# Altium integrated library Maxim Sensors.IntLib: 1171 symbols (part 34 of 61)
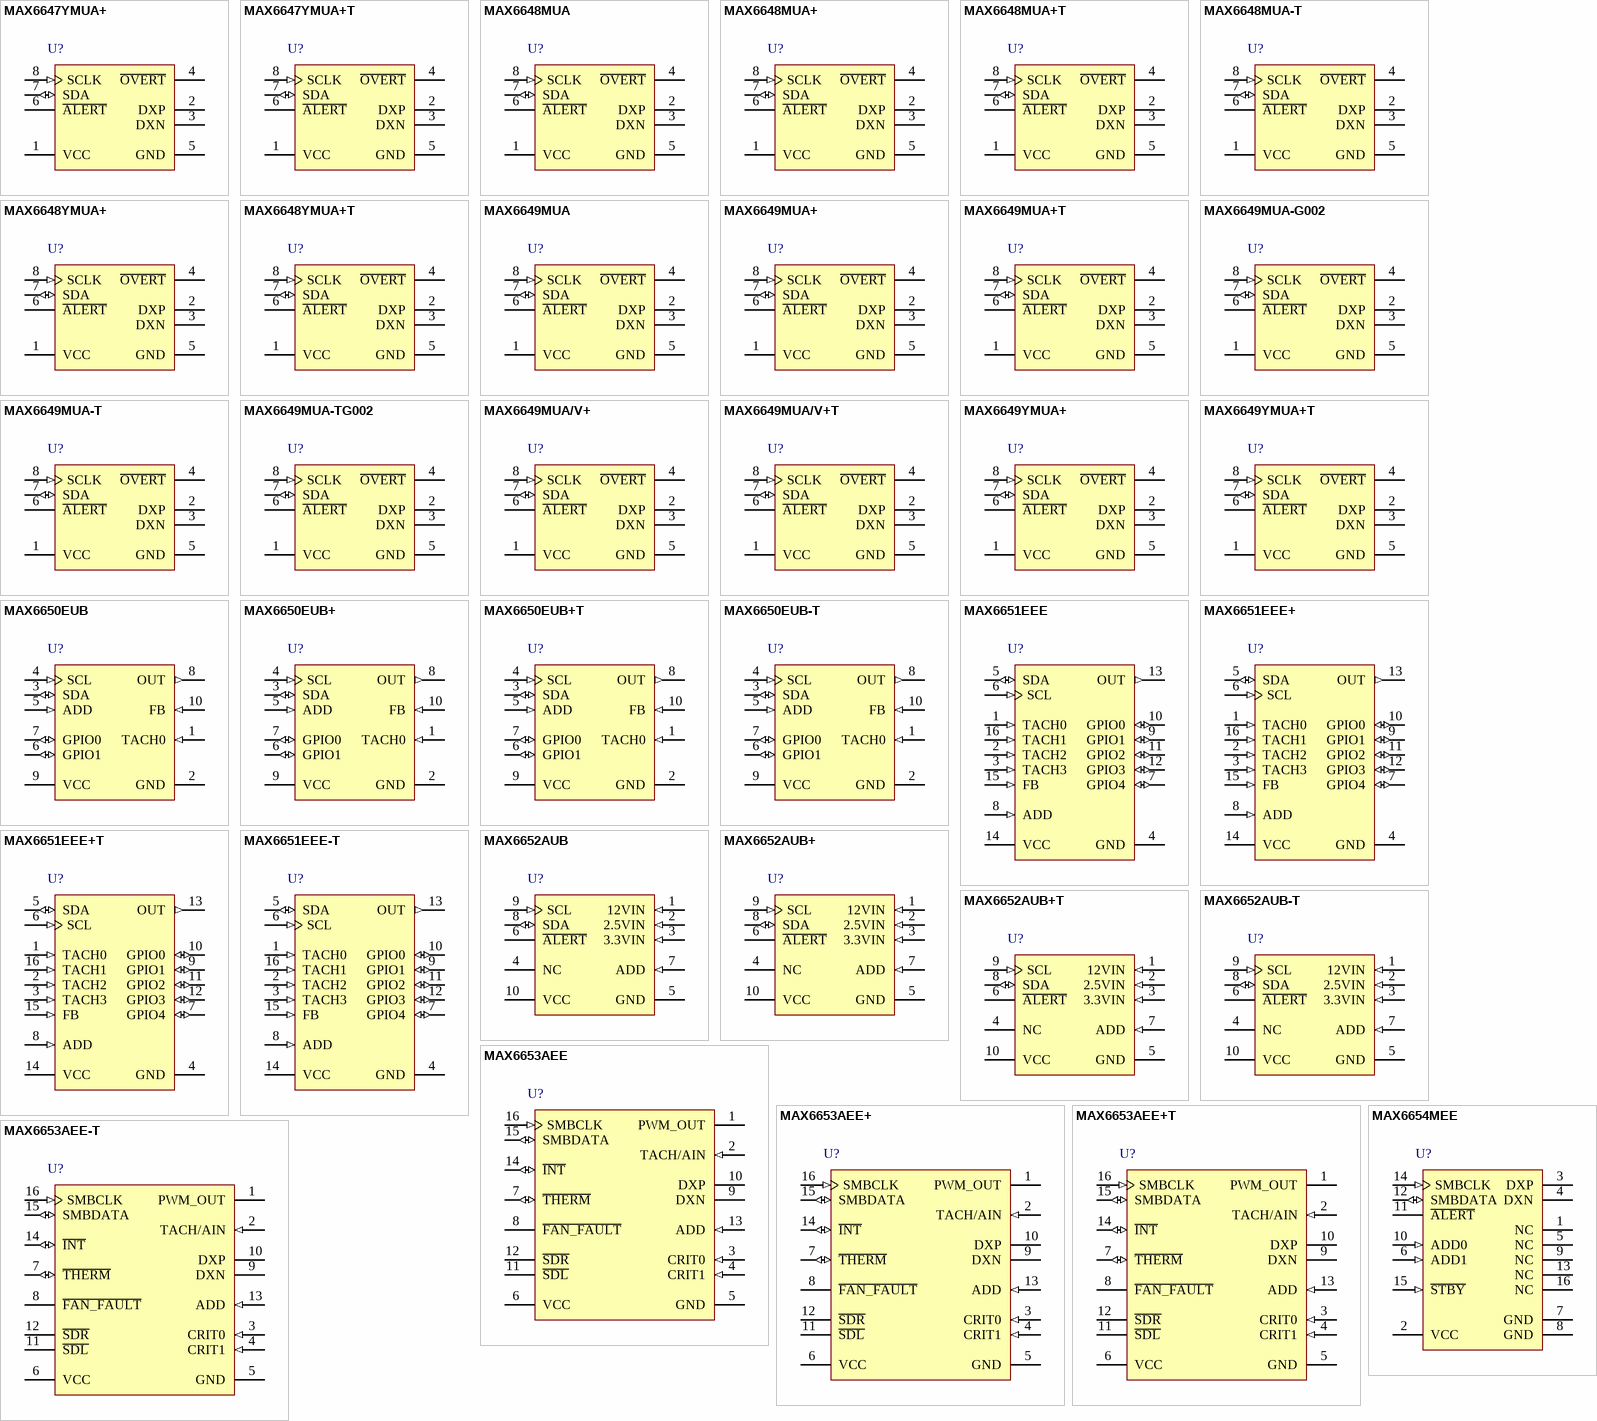
[diagram p66: symbols MAX6647YMUA+ to MAX6654MEE]

## MAX6649MUA-TG002
designator U?
145 degC, SMBus-Compatible Remote / Local Temperature Sensor with Overtemperature Alarms, 11 Bits Temperature Resolution, -55 to 125 degC, 8-Pin SOP (U8-1); Generic Part Number: MAX6649; PartNumber: MAX6649MUA-TG002; Alarm Output: Alert, Overt; Functions: Dual Temperature Alarms, Remote & Local Sensor; Interface: 2-Wire/I2C/SMBus; Parasite Pwr.: No; DatasheetVersion: Rev. 4; PackageVersion: Rev. L, 08/2009; PackageReference: U8-1; PackageDescription: 8-Pin Micro-MAX, Thin Shrink Small-Outline (U8-1), Body 3 x 3 mm, Pitch 0.65mm; Supplier 1: Mouser; Supplier Part Number 1: N/A; Mounting Technology: Surface Mount; Code_JEDEC: MO-187; ComponentLink1Description: Manufacturer URL; ComponentLink1URL: http://www.maximintegrated.com/; ComponentLink2Description: Datasheet; ComponentLink2URL: http://datasheets.maximintegrated.com/en/ds/MAX6646-MAX6649.pdf; ComponentLink3Description: Package Specification; ComponentLink3URL: http://pdfserv.maximintegrated.com/package_dwgs/21-0036.PDF
footprint MAXM-U8-1_N (SOP, 8-Leads, Body 3x3mm, Pitch 0.65mm, IPC Medium Density)
footprint MAXM-U8-1_L (SOP, 8-Leads, Body 3x3mm, Pitch 0.65mm, IPC High Density)
footprint MAXM-U8-1_M (SOP, 8-Leads, Body 3x3mm, Pitch 0.65mm, IPC Low Density)
pins: 1 VCC (power) "Supply Voltage Input, 3V to 5.5V. Bypass VCC to GND with a 0.1uF capacitor. A 200ohm series resistor is recommended but not required for additional noise filtering", 2 DXP "Combined Remote-Diode Current Source and A/D Positive Input for Remote-Diode Channel. DO NOT LEAVE DXP UNCONNECTED; connect DXP to DXN if no remote diode is used. Place a 2200pF capacitor between DXP and DXN for noise (See Datasheet)", 3 DXN "Combined Remote-Diode Current Sink and A/D Negative Input. DXN is internally connected to ground.", 4 ~{OVERT} (oc) "Overtemperature Alert/Interrupt Output, Open Drain. O\V\E\R\T\ is logic low when the temperature is above the software-programmed threshold", 5 GND (power) "Ground", 6 ~{ALERT} (oc) "SMBus Alert (Interrupt) Output, Open Drain. A\L\E\R\T\ asserts when temperature exceeds limits (high or low temperature). A\L\E\R\T\ stays asserted until acknowledged by either reading the status register or by successfully (See Datasheet)", 7 SDA (io) "SMBus Serial-Data Input/Output, Open Drain", 8 SCLK (in) "SMBus Serial-Clock Input"

## MAX6649MUA/V+
designator U?
145 degC, SMBus-Compatible Remote / Local Temperature Sensor with Overtemperature Alarms, 11 Bits Temperature Resolution, -55 to 125 degC, 8-Pin SOP (U8+1), Pb-Free; Generic Part Number: MAX6649; PartNumber: MAX6649MUA/V+; Alarm Output: Alert, Overt; Functions: Dual Temperature Alarms, Remote & Local Sensor; Interface: 2-Wire/I2C/SMBus; Parasite Pwr.: No; DatasheetVersion: Rev. 4; PackageVersion: Rev. L, 08/2009; PackageReference: U8+1; PackageDescription: 8-Pin Micro-MAX, Thin Shrink Small-Outline (U8+1), Body 3 x 3 mm, Pitch 0.65 mm; Supplier 1: Digi-Key; Supplier Part Number 1: MAX6649MUA/V+-ND; Supplier 2: Mouser; Supplier Part Number 2: 700-MAX6649MUA/V+; Mounting Technology: Surface Mount; Code_JEDEC: MO-187; ComponentLink1Description: Manufacturer URL; ComponentLink1URL: http://www.maximintegrated.com/; ComponentLink2Description: Datasheet; ComponentLink2URL: http://datasheets.maximintegrated.com/en/ds/MAX6646-MAX6649.pdf; ComponentLink3Description: Package Specification; ComponentLink3URL: http://pdfserv.maximintegrated.com/package_dwgs/21-0036.PDF
footprint MAXM-U8+1_N (SOP, 8-Leads, Body 3x3mm, Pitch 0.65mm, IPC Medium Density)
footprint MAXM-U8+1_L (SOP, 8-Leads, Body 3x3mm, Pitch 0.65mm, IPC High Density)
footprint MAXM-U8+1_M (SOP, 8-Leads, Body 3x3mm, Pitch 0.65mm, IPC Low Density)
pins: 1 VCC (power) "Supply Voltage Input, 3V to 5.5V. Bypass VCC to GND with a 0.1uF capacitor. A 200ohm series resistor is recommended but not required for additional noise filtering", 2 DXP "Combined Remote-Diode Current Source and A/D Positive Input for Remote-Diode Channel. DO NOT LEAVE DXP UNCONNECTED; connect DXP to DXN if no remote diode is used. Place a 2200pF capacitor between DXP and DXN for noise (See Datasheet)", 3 DXN "Combined Remote-Diode Current Sink and A/D Negative Input. DXN is internally connected to ground.", 4 ~{OVERT} (oc) "Overtemperature Alert/Interrupt Output, Open Drain. O\V\E\R\T\ is logic low when the temperature is above the software-programmed threshold", 5 GND (power) "Ground", 6 ~{ALERT} (oc) "SMBus Alert (Interrupt) Output, Open Drain. A\L\E\R\T\ asserts when temperature exceeds limits (high or low temperature). A\L\E\R\T\ stays asserted until acknowledged by either reading the status register or by successfully (See Datasheet)", 7 SDA (io) "SMBus Serial-Data Input/Output, Open Drain", 8 SCLK (in) "SMBus Serial-Clock Input"

## MAX6649MUA/V+T
designator U?
145 degC, SMBus-Compatible Remote / Local Temperature Sensor with Overtemperature Alarms, 11 Bits Temperature Resolution, -55 to 125 degC, 8-Pin SOP (U8+1), Pb-Free, Tape and Reel; Generic Part Number: MAX6649; PartNumber: MAX6649MUA/V+T; Alarm Output: Alert, Overt; Functions: Dual Temperature Alarms, Remote & Local Sensor; Interface: 2-Wire/I2C/SMBus; Parasite Pwr.: No; DatasheetVersion: Rev. 4; PackageVersion: Rev. L, 08/2009; PackageReference: U8+1; PackageDescription: 8-Pin Micro-MAX, Thin Shrink Small-Outline (U8+1), Body 3 x 3 mm, Pitch 0.65 mm; Supplier 1: Digi-Key; Supplier Part Number 1: MAX6649MUA/V+T-ND; Supplier 2: Mouser; Supplier Part Number 2: 700-MAX6649MUA/V+T; Packing: Tape and Reel; Mounting Technology: Surface Mount; Code_JEDEC: MO-187; ComponentLink1Description: Manufacturer URL; ComponentLink1URL: http://www.maximintegrated.com/; ComponentLink2Description: Datasheet; ComponentLink2URL: http://datasheets.maximintegrated.com/en/ds/MAX6646-MAX6649.pdf; ComponentLink3Description: Package Specification; ComponentLink3URL: http://pdfserv.maximintegrated.com/package_dwgs/21-0036.PDF
footprint MAXM-U8+1_N (SOP, 8-Leads, Body 3x3mm, Pitch 0.65mm, IPC Medium Density)
footprint MAXM-U8+1_L (SOP, 8-Leads, Body 3x3mm, Pitch 0.65mm, IPC High Density)
footprint MAXM-U8+1_M (SOP, 8-Leads, Body 3x3mm, Pitch 0.65mm, IPC Low Density)
pins: 1 VCC (power) "Supply Voltage Input, 3V to 5.5V. Bypass VCC to GND with a 0.1uF capacitor. A 200ohm series resistor is recommended but not required for additional noise filtering", 2 DXP "Combined Remote-Diode Current Source and A/D Positive Input for Remote-Diode Channel. DO NOT LEAVE DXP UNCONNECTED; connect DXP to DXN if no remote diode is used. Place a 2200pF capacitor between DXP and DXN for noise (See Datasheet)", 3 DXN "Combined Remote-Diode Current Sink and A/D Negative Input. DXN is internally connected to ground.", 4 ~{OVERT} (oc) "Overtemperature Alert/Interrupt Output, Open Drain. O\V\E\R\T\ is logic low when the temperature is above the software-programmed threshold", 5 GND (power) "Ground", 6 ~{ALERT} (oc) "SMBus Alert (Interrupt) Output, Open Drain. A\L\E\R\T\ asserts when temperature exceeds limits (high or low temperature). A\L\E\R\T\ stays asserted until acknowledged by either reading the status register or by successfully (See Datasheet)", 7 SDA (io) "SMBus Serial-Data Input/Output, Open Drain", 8 SCLK (in) "SMBus Serial-Clock Input"

## MAX6649YMUA+
designator U?
145 degC, SMBus-Compatible Remote / Local Temperature Sensor with Overtemperature Alarms, 11 Bits Temperature Resolution, -55 to 125 degC, 8-Pin SOP (U8+1), Pb-Free; Generic Part Number: MAX6649; PartNumber: MAX6649YMUA+; Alarm Output: Alert, Overt; Functions: Dual Temperature Alarms, Remote & Local Sensor; Interface: 2-Wire/I2C/SMBus; Parasite Pwr.: No; DatasheetVersion: Rev. 4; PackageVersion: Rev. L, 08/2009; PackageReference: U8+1; PackageDescription: 8-Pin Micro-MAX, Thin Shrink Small-Outline (U8+1), Body 3 x 3 mm, Pitch 0.65 mm; Supplier 1: Digi-Key; Supplier Part Number 1: MAX6649YMUA+-ND; Supplier 2: Mouser; Supplier Part Number 2: 700-MAX6649YMUA; Mounting Technology: Surface Mount; Code_JEDEC: MO-187; ComponentLink1Description: Manufacturer URL; ComponentLink1URL: http://www.maximintegrated.com/; ComponentLink2Description: Datasheet; ComponentLink2URL: http://datasheets.maximintegrated.com/en/ds/MAX6646-MAX6649.pdf; ComponentLink3Description: Package Specification; ComponentLink3URL: http://pdfserv.maximintegrated.com/package_dwgs/21-0036.PDF
footprint MAXM-U8+1_N (SOP, 8-Leads, Body 3x3mm, Pitch 0.65mm, IPC Medium Density)
footprint MAXM-U8+1_L (SOP, 8-Leads, Body 3x3mm, Pitch 0.65mm, IPC High Density)
footprint MAXM-U8+1_M (SOP, 8-Leads, Body 3x3mm, Pitch 0.65mm, IPC Low Density)
pins: 1 VCC (power) "Supply Voltage Input, 3V to 5.5V. Bypass VCC to GND with a 0.1uF capacitor. A 200ohm series resistor is recommended but not required for additional noise filtering", 2 DXP "Combined Remote-Diode Current Source and A/D Positive Input for Remote-Diode Channel. DO NOT LEAVE DXP UNCONNECTED; connect DXP to DXN if no remote diode is used. Place a 2200pF capacitor between DXP and DXN for noise (See Datasheet)", 3 DXN "Combined Remote-Diode Current Sink and A/D Negative Input. DXN is internally connected to ground.", 4 ~{OVERT} (oc) "Overtemperature Alert/Interrupt Output, Open Drain. O\V\E\R\T\ is logic low when the temperature is above the software-programmed threshold", 5 GND (power) "Ground", 6 ~{ALERT} (oc) "SMBus Alert (Interrupt) Output, Open Drain. A\L\E\R\T\ asserts when temperature exceeds limits (high or low temperature). A\L\E\R\T\ stays asserted until acknowledged by either reading the status register or by successfully (See Datasheet)", 7 SDA (io) "SMBus Serial-Data Input/Output, Open Drain", 8 SCLK (in) "SMBus Serial-Clock Input"

## MAX6649YMUA+T
designator U?
145 degC, SMBus-Compatible Remote / Local Temperature Sensor with Overtemperature Alarms, 11 Bits Temperature Resolution, -55 to 125 degC, 8-Pin SOP (U8+1), Pb-Free, Tape and Reel; Generic Part Number: MAX6649; PartNumber: MAX6649YMUA+T; Alarm Output: Alert, Overt; Functions: Dual Temperature Alarms, Remote & Local Sensor; Interface: 2-Wire/I2C/SMBus; Parasite Pwr.: No; DatasheetVersion: Rev. 4; PackageVersion: Rev. L, 08/2009; PackageReference: U8+1; PackageDescription: 8-Pin Micro-MAX, Thin Shrink Small-Outline (U8+1), Body 3 x 3 mm, Pitch 0.65 mm; Supplier 1: Digi-Key; Supplier Part Number 1: MAX6649YMUA+T-ND; Supplier 2: Mouser; Supplier Part Number 2: 700-MAX6649YMUAT; Packing: Tape and Reel; Mounting Technology: Surface Mount; Code_JEDEC: MO-187; ComponentLink1Description: Manufacturer URL; ComponentLink1URL: http://www.maximintegrated.com/; ComponentLink2Description: Datasheet; ComponentLink2URL: http://datasheets.maximintegrated.com/en/ds/MAX6646-MAX6649.pdf; ComponentLink3Description: Package Specification; ComponentLink3URL: http://pdfserv.maximintegrated.com/package_dwgs/21-0036.PDF
footprint MAXM-U8+1_N (SOP, 8-Leads, Body 3x3mm, Pitch 0.65mm, IPC Medium Density)
footprint MAXM-U8+1_L (SOP, 8-Leads, Body 3x3mm, Pitch 0.65mm, IPC High Density)
footprint MAXM-U8+1_M (SOP, 8-Leads, Body 3x3mm, Pitch 0.65mm, IPC Low Density)
pins: 1 VCC (power) "Supply Voltage Input, 3V to 5.5V. Bypass VCC to GND with a 0.1uF capacitor. A 200ohm series resistor is recommended but not required for additional noise filtering", 2 DXP "Combined Remote-Diode Current Source and A/D Positive Input for Remote-Diode Channel. DO NOT LEAVE DXP UNCONNECTED; connect DXP to DXN if no remote diode is used. Place a 2200pF capacitor between DXP and DXN for noise (See Datasheet)", 3 DXN "Combined Remote-Diode Current Sink and A/D Negative Input. DXN is internally connected to ground.", 4 ~{OVERT} (oc) "Overtemperature Alert/Interrupt Output, Open Drain. O\V\E\R\T\ is logic low when the temperature is above the software-programmed threshold", 5 GND (power) "Ground", 6 ~{ALERT} (oc) "SMBus Alert (Interrupt) Output, Open Drain. A\L\E\R\T\ asserts when temperature exceeds limits (high or low temperature). A\L\E\R\T\ stays asserted until acknowledged by either reading the status register or by successfully (See Datasheet)", 7 SDA (io) "SMBus Serial-Data Input/Output, Open Drain", 8 SCLK (in) "SMBus Serial-Clock Input"

## MAX6650EUB
designator U?
Fan-Speed Regulator and Monitor with I2C / SMBus Interface, -40 to 85 degC, 10-Pin SOP (U10-2); Generic Part Number: MAX6650; PartNumber: MAX6650EUB; Fan Cntrl.: Linear; Interface: 2-Wire/I2C/SMBus; DatasheetVersion: Rev. 4; PackageVersion: Rev. L, 07/2008; PackageReference: U10-2; PackageDescription: 10-Pin Micro-MAX, Thin Shrink Small-Outline (U10-2), Body 3 x 3 mm, Pitch 0.5 mm; Supplier 1: Mouser; Supplier Part Number 1: N/A; Mounting Technology: Surface Mount; Code_JEDEC: MO-187; ComponentLink1Description: Manufacturer URL; ComponentLink1URL: http://www.maximintegrated.com/; ComponentLink2Description: Datasheet; ComponentLink2URL: http://datasheets.maximintegrated.com/en/ds/MAX6650-MAX6651.pdf; ComponentLink3Description: Package Specification; ComponentLink3URL: http://pdfserv.maximintegrated.com/package_dwgs/21-0061.PDF
footprint MAXM-U10-2_N (SOP, 10-Leads, Body 3x3mm, Pitch 0.5mm, IPC Medium Density)
footprint MAXM-U10-2_L (SOP, 10-Leads, Body 3x3mm, Pitch 0.5mm, IPC High Density)
footprint MAXM-U10-2_M (SOP, 10-Leads, Body 3x3mm, Pitch 0.5mm, IPC Low Density)
pins: 1 TACH0 (in) "Tachometer Input. Used to close the loop around the tachometer.", 2 GND (power) "Ground", 3 SDA (io) "2-Wire Serial-Data Input/Output (open drain)", 4 SCL (in) "2-Wire Serial Clock Input", 5 ADD (in) "Slave Address Select Input (Table 1)", 6 GPIO1 (io) "General-Purpose Input/Output (open drain). Configurable to act either as an output or as an input (F\U\L\L\O\N\ or general purpose).", 7 GPIO0 (io) "General-Purpose Input/Output (open drain). Configurable to act as a general input/output line or an active-low A\L\E\R\T\ output.", 8 OUT (out) "Output. Drives the external MOSFET or bipolar transistor.", 9 VCC (power) "+3.0V to +5.5V Power Supply", 10 FB (in) "Feedback Input. Closes the loop around the external MOSFET or bipolar transistor."

## MAX6650EUB+
designator U?
Fan-Speed Regulator and Monitor with I2C / SMBus Interface, -40 to 85 degC, 10-Pin SOP (U10+2), Pb-Free; Generic Part Number: MAX6650; PartNumber: MAX6650EUB+; Fan Cntrl.: Linear; Interface: 2-Wire/I2C/SMBus; DatasheetVersion: Rev. 4; PackageVersion: Rev. L, 07/2008; PackageReference: U10+2; PackageDescription: 10-Pin Micro-MAX, Thin Shrink Small-Outline (U10+2), Body 3 x 3 mm, Pitch 0.5 mm; Supplier 1: Digi-Key; Supplier Part Number 1: MAX6650EUB+-ND; Supplier 2: Farnell; Supplier Part Number 2: 1380010; Supplier 3: Newark; Supplier Part Number 3: 26R6564; Supplier 4: Mouser; Supplier Part Number 4: 700-MAX6650EUB; Mounting Technology: Surface Mount; Code_JEDEC: MO-187; ComponentLink1Description: Manufacturer URL; ComponentLink1URL: http://www.maximintegrated.com/; ComponentLink2Description: Datasheet; ComponentLink2URL: http://datasheets.maximintegrated.com/en/ds/MAX6650-MAX6651.pdf; ComponentLink3Description: Package Specification; ComponentLink3URL: http://pdfserv.maximintegrated.com/package_dwgs/21-0061.PDF
footprint MAXM-U10+2_N (SOP, 10-Leads, Body 3x3mm, Pitch 0.5mm, IPC Medium Density)
footprint MAXM-U10+2_L (SOP, 10-Leads, Body 3x3mm, Pitch 0.5mm, IPC High Density)
footprint MAXM-U10+2_M (SOP, 10-Leads, Body 3x3mm, Pitch 0.5mm, IPC Low Density)
pins: 1 TACH0 (in) "Tachometer Input. Used to close the loop around the tachometer.", 2 GND (power) "Ground", 3 SDA (io) "2-Wire Serial-Data Input/Output (open drain)", 4 SCL (in) "2-Wire Serial Clock Input", 5 ADD (in) "Slave Address Select Input (Table 1)", 6 GPIO1 (io) "General-Purpose Input/Output (open drain). Configurable to act either as an output or as an input (F\U\L\L\O\N\ or general purpose).", 7 GPIO0 (io) "General-Purpose Input/Output (open drain). Configurable to act as a general input/output line or an active-low A\L\E\R\T\ output.", 8 OUT (out) "Output. Drives the external MOSFET or bipolar transistor.", 9 VCC (power) "+3.0V to +5.5V Power Supply", 10 FB (in) "Feedback Input. Closes the loop around the external MOSFET or bipolar transistor."

## MAX6650EUB+T
designator U?
Fan-Speed Regulator and Monitor with I2C / SMBus Interface, -40 to 85 degC, 10-Pin SOP (U10+2), Pb-Free, Tape and Reel; Generic Part Number: MAX6650; PartNumber: MAX6650EUB+T; Fan Cntrl.: Linear; Interface: 2-Wire/I2C/SMBus; DatasheetVersion: Rev. 4; PackageVersion: Rev. L, 07/2008; PackageReference: U10+2; PackageDescription: 10-Pin Micro-MAX, Thin Shrink Small-Outline (U10+2), Body 3 x 3 mm, Pitch 0.5 mm; Supplier 1: Digi-Key; Supplier Part Number 1: MAX6650EUB+TTR-ND; Supplier 2: Digi-Key; Supplier Part Number 2: MAX6650EUB+TCT-ND; Supplier 3: Digi-Key; Supplier Part Number 3: MAX6650EUB+TDKR-ND; Supplier 4: Mouser; Supplier Part Number 4: 700-MAX6650EUBT; Packing: Tape and Reel; Mounting Technology: Surface Mount; Code_JEDEC: MO-187; ComponentLink1Description: Manufacturer URL; ComponentLink1URL: http://www.maximintegrated.com/; ComponentLink2Description: Datasheet; ComponentLink2URL: http://datasheets.maximintegrated.com/en/ds/MAX6650-MAX6651.pdf; ComponentLink3Description: Package Specification; ComponentLink3URL: http://pdfserv.maximintegrated.com/package_dwgs/21-0061.PDF
footprint MAXM-U10+2_N (SOP, 10-Leads, Body 3x3mm, Pitch 0.5mm, IPC Medium Density)
footprint MAXM-U10+2_L (SOP, 10-Leads, Body 3x3mm, Pitch 0.5mm, IPC High Density)
footprint MAXM-U10+2_M (SOP, 10-Leads, Body 3x3mm, Pitch 0.5mm, IPC Low Density)
pins: 1 TACH0 (in) "Tachometer Input. Used to close the loop around the tachometer.", 2 GND (power) "Ground", 3 SDA (io) "2-Wire Serial-Data Input/Output (open drain)", 4 SCL (in) "2-Wire Serial Clock Input", 5 ADD (in) "Slave Address Select Input (Table 1)", 6 GPIO1 (io) "General-Purpose Input/Output (open drain). Configurable to act either as an output or as an input (F\U\L\L\O\N\ or general purpose).", 7 GPIO0 (io) "General-Purpose Input/Output (open drain). Configurable to act as a general input/output line or an active-low A\L\E\R\T\ output.", 8 OUT (out) "Output. Drives the external MOSFET or bipolar transistor.", 9 VCC (power) "+3.0V to +5.5V Power Supply", 10 FB (in) "Feedback Input. Closes the loop around the external MOSFET or bipolar transistor."

## MAX6650EUB-T
designator U?
Fan-Speed Regulator and Monitor with I2C / SMBus Interface, -40 to 85 degC, 10-Pin SOP (U10-2), Tape and Reel; Generic Part Number: MAX6650; PartNumber: MAX6650EUB-T; Fan Cntrl.: Linear; Interface: 2-Wire/I2C/SMBus; DatasheetVersion: Rev. 4; PackageVersion: Rev. L, 07/2008; PackageReference: U10-2; PackageDescription: 10-Pin Micro-MAX, Thin Shrink Small-Outline (U10-2), Body 3 x 3 mm, Pitch 0.5 mm; Supplier 1: Mouser; Supplier Part Number 1: N/A; Packing: Tape and Reel; Mounting Technology: Surface Mount; Code_JEDEC: MO-187; ComponentLink1Description: Manufacturer URL; ComponentLink1URL: http://www.maximintegrated.com/; ComponentLink2Description: Datasheet; ComponentLink2URL: http://datasheets.maximintegrated.com/en/ds/MAX6650-MAX6651.pdf; ComponentLink3Description: Package Specification; ComponentLink3URL: http://pdfserv.maximintegrated.com/package_dwgs/21-0061.PDF
footprint MAXM-U10-2_N (SOP, 10-Leads, Body 3x3mm, Pitch 0.5mm, IPC Medium Density)
footprint MAXM-U10-2_L (SOP, 10-Leads, Body 3x3mm, Pitch 0.5mm, IPC High Density)
footprint MAXM-U10-2_M (SOP, 10-Leads, Body 3x3mm, Pitch 0.5mm, IPC Low Density)
pins: 1 TACH0 (in) "Tachometer Input. Used to close the loop around the tachometer.", 2 GND (power) "Ground", 3 SDA (io) "2-Wire Serial-Data Input/Output (open drain)", 4 SCL (in) "2-Wire Serial Clock Input", 5 ADD (in) "Slave Address Select Input (Table 1)", 6 GPIO1 (io) "General-Purpose Input/Output (open drain). Configurable to act either as an output or as an input (F\U\L\L\O\N\ or general purpose).", 7 GPIO0 (io) "General-Purpose Input/Output (open drain). Configurable to act as a general input/output line or an active-low A\L\E\R\T\ output.", 8 OUT (out) "Output. Drives the external MOSFET or bipolar transistor.", 9 VCC (power) "+3.0V to +5.5V Power Supply", 10 FB (in) "Feedback Input. Closes the loop around the external MOSFET or bipolar transistor."

## MAX6651EEE
designator U?
Fan-Speed Regulator and Monitor with I2C / SMBus Interface, -40 to 85 degC, 16-Pin SOP (E16-1); Generic Part Number: MAX6651; PartNumber: MAX6651EEE; Fan Cntrl.: Linear; Interface: 2-Wire/I2C/SMBus; DatasheetVersion: Rev. 4; PackageVersion: Rev. K, 04/2012; PackageReference: E16-1; PackageDescription: 16-Pin Quarter Small-Outline Package (E16-1), Body 4.90 x 3.89 mm, Pitch 0.635 mm; Supplier 1: Digi-Key; Supplier Part Number 1: MAX6651EEE-ND; Supplier 2: Mouser; Supplier Part Number 2: N/A; Mounting Technology: Surface Mount; Code_JEDEC: MO137; ComponentLink1Description: Manufacturer URL; ComponentLink1URL: http://www.maximintegrated.com/; ComponentLink2Description: Datasheet; ComponentLink2URL: http://datasheets.maximintegrated.com/en/ds/MAX6650-MAX6651.pdf; ComponentLink3Description: Package Specification; ComponentLink3URL: http://pdfserv.maximintegrated.com/package_dwgs/21-0055.PDF
footprint MAXM-E16-1_N (SOP, 16-Leads, Body 4.9x3.89mm, Pitch 0.635mm, IPC Medium Density)
footprint MAXM-E16-1_L (SOP, 16-Leads, Body 4.9x3.89mm, Pitch 0.635mm, IPC High Density)
footprint MAXM-E16-1_M (SOP, 16-Leads, Body 4.9x3.89mm, Pitch 0.635mm, IPC Low Density)
pins: 1 TACH0 (in) "Tachometer Input. Used to close the loop around the tachometer.", 2 TACH2 (in) "Tachometer Inputs. Used to monitor tachometers only.", 3 TACH3 (in) "Tachometer Inputs. Used to monitor tachometers only.", 4 GND (power) "Ground", 5 SDA (io) "2-Wire Serial-Data Input/Output (open drain)", 6 SCL (in) "2-Wire Serial Clock Input", 7 GPIO4 (io) "General-Purpose Input/Output (open drain)", 8 ADD (in) "Slave Address Select Input (Table 1)", 9 GPIO1 (io) "General-Purpose Input/Output (open drain). Configurable to act either as an output or as an input (F\U\L\L\ O\N\ or general purpose).", 10 GPIO0 (io) "General-Purpose Input/Output (open drain). Configurable to act as a general input/output line or an active-low A\L\E\R\T\ output.", 11 GPIO2 (io) "General-Purpose Input/Output (open drain). Configurable to act as a general input/output line, an internal clock output, or an external clock input.", 12 GPIO3 (io) "General-Purpose Input/Output (open drain)", 13 OUT (out) "Output. Drives the external MOSFET or bipolar transistor.", 14 VCC (power) "+3.0V to +5.5V Power Supply", 15 FB (in) "Feedback Input. Closes the loop around the external MOSFET or bipolar transistor.", 16 TACH1 (in) "Tachometer Inputs. Used to monitor tachometers only."

## MAX6651EEE+
designator U?
Fan-Speed Regulator and Monitor with I2C / SMBus Interface, -40 to 85 degC, 16-Pin SOP (E16+1), Pb-Free; Generic Part Number: MAX6651; PartNumber: MAX6651EEE+; Fan Cntrl.: Linear; Interface: 2-Wire/I2C/SMBus; DatasheetVersion: Rev. 4; PackageVersion: Rev. K, 04/2012; PackageReference: E16+1; PackageDescription: 16-Pin Quarter Small-Outline Package (E16+1), Body 4.90 x 3.89 mm, Pitch 0.635 mm; Supplier 1: Digi-Key; Supplier Part Number 1: MAX6651EEE+-ND; Supplier 2: Farnell; Supplier Part Number 2: 1610118; Supplier 3: Newark; Supplier Part Number 3: 26R6565; Supplier 4: Newark; Supplier Part Number 4: 67K6255; Supplier 5: Mouser; Supplier Part Number 5: 700-MAX6651EEE; Mounting Technology: Surface Mount; Code_JEDEC: MO137; ComponentLink1Description: Manufacturer URL; ComponentLink1URL: http://www.maximintegrated.com/; ComponentLink2Description: Datasheet; ComponentLink2URL: http://datasheets.maximintegrated.com/en/ds/MAX6650-MAX6651.pdf; ComponentLink3Description: Package Specification; ComponentLink3URL: http://pdfserv.maximintegrated.com/package_dwgs/21-0055.PDF
footprint MAXM-E16+1_N (SOP, 16-Leads, Body 4.9x3.89mm, Pitch 0.635mm, IPC Medium Density)
footprint MAXM-E16+1_L (SOP, 16-Leads, Body 4.9x3.89mm, Pitch 0.635mm, IPC High Density)
footprint MAXM-E16+1_M (SOP, 16-Leads, Body 4.9x3.89mm, Pitch 0.635mm, IPC Low Density)
pins: 1 TACH0 (in) "Tachometer Input. Used to close the loop around the tachometer.", 2 TACH2 (in) "Tachometer Inputs. Used to monitor tachometers only.", 3 TACH3 (in) "Tachometer Inputs. Used to monitor tachometers only.", 4 GND (power) "Ground", 5 SDA (io) "2-Wire Serial-Data Input/Output (open drain)", 6 SCL (in) "2-Wire Serial Clock Input", 7 GPIO4 (io) "General-Purpose Input/Output (open drain)", 8 ADD (in) "Slave Address Select Input (Table 1)", 9 GPIO1 (io) "General-Purpose Input/Output (open drain). Configurable to act either as an output or as an input (F\U\L\L\ O\N\ or general purpose).", 10 GPIO0 (io) "General-Purpose Input/Output (open drain). Configurable to act as a general input/output line or an active-low A\L\E\R\T\ output.", 11 GPIO2 (io) "General-Purpose Input/Output (open drain). Configurable to act as a general input/output line, an internal clock output, or an external clock input.", 12 GPIO3 (io) "General-Purpose Input/Output (open drain)", 13 OUT (out) "Output. Drives the external MOSFET or bipolar transistor.", 14 VCC (power) "+3.0V to +5.5V Power Supply", 15 FB (in) "Feedback Input. Closes the loop around the external MOSFET or bipolar transistor.", 16 TACH1 (in) "Tachometer Inputs. Used to monitor tachometers only."

## MAX6651EEE+T
designator U?
Fan-Speed Regulator and Monitor with I2C / SMBus Interface, -40 to 85 degC, 16-Pin SOP (E16+1), Pb-Free, Tape and Reel; Generic Part Number: MAX6651; PartNumber: MAX6651EEE+T; Fan Cntrl.: Linear; Interface: 2-Wire/I2C/SMBus; DatasheetVersion: Rev. 4; PackageVersion: Rev. K, 04/2012; PackageReference: E16+1; PackageDescription: 16-Pin Quarter Small-Outline Package (E16+1), Body 4.90 x 3.89 mm, Pitch 0.635 mm; Supplier 1: Digi-Key; Supplier Part Number 1: MAX6651EEE+TTR-ND; Supplier 2: Digi-Key; Supplier Part Number 2: MAX6651EEE+TCT-ND; Supplier 3: Digi-Key; Supplier Part Number 3: MAX6651EEE+TDKR-ND; Supplier 4: Mouser; Supplier Part Number 4: 700-MAX6651EEET; Packing: Tape and Reel; Mounting Technology: Surface Mount; Code_JEDEC: MO137; ComponentLink1Description: Manufacturer URL; ComponentLink1URL: http://www.maximintegrated.com/; ComponentLink2Description: Datasheet; ComponentLink2URL: http://datasheets.maximintegrated.com/en/ds/MAX6650-MAX6651.pdf; ComponentLink3Description: Package Specification; ComponentLink3URL: http://pdfserv.maximintegrated.com/package_dwgs/21-0055.PDF
footprint MAXM-E16+1_N (SOP, 16-Leads, Body 4.9x3.89mm, Pitch 0.635mm, IPC Medium Density)
footprint MAXM-E16+1_L (SOP, 16-Leads, Body 4.9x3.89mm, Pitch 0.635mm, IPC High Density)
footprint MAXM-E16+1_M (SOP, 16-Leads, Body 4.9x3.89mm, Pitch 0.635mm, IPC Low Density)
pins: 1 TACH0 (in) "Tachometer Input. Used to close the loop around the tachometer.", 2 TACH2 (in) "Tachometer Inputs. Used to monitor tachometers only.", 3 TACH3 (in) "Tachometer Inputs. Used to monitor tachometers only.", 4 GND (power) "Ground", 5 SDA (io) "2-Wire Serial-Data Input/Output (open drain)", 6 SCL (in) "2-Wire Serial Clock Input", 7 GPIO4 (io) "General-Purpose Input/Output (open drain)", 8 ADD (in) "Slave Address Select Input (Table 1)", 9 GPIO1 (io) "General-Purpose Input/Output (open drain). Configurable to act either as an output or as an input (F\U\L\L\ O\N\ or general purpose).", 10 GPIO0 (io) "General-Purpose Input/Output (open drain). Configurable to act as a general input/output line or an active-low A\L\E\R\T\ output.", 11 GPIO2 (io) "General-Purpose Input/Output (open drain). Configurable to act as a general input/output line, an internal clock output, or an external clock input.", 12 GPIO3 (io) "General-Purpose Input/Output (open drain)", 13 OUT (out) "Output. Drives the external MOSFET or bipolar transistor.", 14 VCC (power) "+3.0V to +5.5V Power Supply", 15 FB (in) "Feedback Input. Closes the loop around the external MOSFET or bipolar transistor.", 16 TACH1 (in) "Tachometer Inputs. Used to monitor tachometers only."

## MAX6651EEE-T
designator U?
Fan-Speed Regulator and Monitor with I2C / SMBus Interface, -40 to 85 degC, 16-Pin SOP (E16-1), Tape and Reel; Generic Part Number: MAX6651; PartNumber: MAX6651EEE-T; Fan Cntrl.: Linear; Interface: 2-Wire/I2C/SMBus; DatasheetVersion: Rev. 4; PackageVersion: Rev. K, 04/2012; PackageReference: E16-1; PackageDescription: 16-Pin Quarter Small-Outline Package (E16-1), Body 4.90 x 3.89 mm, Pitch 0.635 mm; Supplier 1: Mouser; Supplier Part Number 1: N/A; Packing: Tape and Reel; Mounting Technology: Surface Mount; Code_JEDEC: MO137; ComponentLink1Description: Manufacturer URL; ComponentLink1URL: http://www.maximintegrated.com/; ComponentLink2Description: Datasheet; ComponentLink2URL: http://datasheets.maximintegrated.com/en/ds/MAX6650-MAX6651.pdf; ComponentLink3Description: Package Specification; ComponentLink3URL: http://pdfserv.maximintegrated.com/package_dwgs/21-0055.PDF
footprint MAXM-E16-1_N (SOP, 16-Leads, Body 4.9x3.89mm, Pitch 0.635mm, IPC Medium Density)
footprint MAXM-E16-1_L (SOP, 16-Leads, Body 4.9x3.89mm, Pitch 0.635mm, IPC High Density)
footprint MAXM-E16-1_M (SOP, 16-Leads, Body 4.9x3.89mm, Pitch 0.635mm, IPC Low Density)
pins: 1 TACH0 (in) "Tachometer Input. Used to close the loop around the tachometer.", 2 TACH2 (in) "Tachometer Inputs. Used to monitor tachometers only.", 3 TACH3 (in) "Tachometer Inputs. Used to monitor tachometers only.", 4 GND (power) "Ground", 5 SDA (io) "2-Wire Serial-Data Input/Output (open drain)", 6 SCL (in) "2-Wire Serial Clock Input", 7 GPIO4 (io) "General-Purpose Input/Output (open drain)", 8 ADD (in) "Slave Address Select Input (Table 1)", 9 GPIO1 (io) "General-Purpose Input/Output (open drain). Configurable to act either as an output or as an input (F\U\L\L\ O\N\ or general purpose).", 10 GPIO0 (io) "General-Purpose Input/Output (open drain). Configurable to act as a general input/output line or an active-low A\L\E\R\T\ output.", 11 GPIO2 (io) "General-Purpose Input/Output (open drain). Configurable to act as a general input/output line, an internal clock output, or an external clock input.", 12 GPIO3 (io) "General-Purpose Input/Output (open drain)", 13 OUT (out) "Output. Drives the external MOSFET or bipolar transistor.", 14 VCC (power) "+3.0V to +5.5V Power Supply", 15 FB (in) "Feedback Input. Closes the loop around the external MOSFET or bipolar transistor.", 16 TACH1 (in) "Tachometer Inputs. Used to monitor tachometers only."

## MAX6652AUB
designator U?
Temperature Sensor and System Monitor, 8 Bits Temperature Resolution, -40 to 125 degC, 10-Pin SOP (U10-2); Generic Part Number: MAX6652; PartNumber: MAX6652AUB; Alarm Output: Alert; Functions: Multi-Channel Temperature Monitor; Interface: 2-Wire/I2C/SMBus; Multi Droppable: Yes; Parasite Pwr.: No; DatasheetVersion: Rev. 1; PackageVersion: Rev. L, 07/2008; PackageReference: U10-2; PackageDescription: 10-Pin Micro-MAX, Thin Shrink Small-Outline (U10-2), Body 3 x 3 mm, Pitch 0.5 mm; Supplier 1: Mouser; Supplier Part Number 1: N/A; Mounting Technology: Surface Mount; Code_JEDEC: MO-187; ComponentLink1Description: Manufacturer URL; ComponentLink1URL: http://www.maximintegrated.com/; ComponentLink2Description: Datasheet; ComponentLink2URL: http://datasheets.maximintegrated.com/en/ds/MAX6652.pdf; ComponentLink3Description: Package Specification; ComponentLink3URL: http://pdfserv.maximintegrated.com/package_dwgs/21-0061.PDF
footprint MAXM-U10-2_N (SOP, 10-Leads, Body 3x3mm, Pitch 0.5mm, IPC Medium Density)
footprint MAXM-U10-2_L (SOP, 10-Leads, Body 3x3mm, Pitch 0.5mm, IPC High Density)
footprint MAXM-U10-2_M (SOP, 10-Leads, Body 3x3mm, Pitch 0.5mm, IPC Low Density)
pins: 1 12VIN (in) "Analog Input. Monitors 12V supply.", 2 2.5VIN (in) "Analog Input. Monitors 2.5V supply.", 3 3.3VIN (in) "Analog Input. Monitors 3.3V supply.", 4 NC "No Connection. Can be connected to GND to improve thermal conductivity.", 5 GND (power) "Ground", 6 ~{ALERT} (oc) "SMBus Alert (Interrupt) Output, Open Drain. Alerts the master that a temperature or voltage limit has been violated.", 7 ADD (in) "SMBus Address Select Input. ADD is sampled at the beginning of each I2C-compatible/SMBus transaction, and the 2 LSBs of the slave address register are detemined by ADD's connection to GND, SDA, SCL, or VCC.", 8 SDA (io) "I2C-Compatible/SMBus Serial Data Interface", 9 SCL (in) "I2C-Compatible/SMBus Serial Clock Input", 10 VCC (power) "Supply Voltage Input, +2.7V to +5.5V. Also serves as a voltage monitor input. Bypass VCC to GND with a 0.1µFuF capacitor."

## MAX6652AUB+
designator U?
Temperature Sensor and System Monitor, 8 Bits Temperature Resolution, -40 to 125 degC, 10-Pin SOP (U10+2), Pb-Free; Generic Part Number: MAX6652; PartNumber: MAX6652AUB+; Alarm Output: Alert; Functions: Multi-Channel Temperature Monitor; Interface: 2-Wire/I2C/SMBus; Multi Droppable: Yes; Parasite Pwr.: No; DatasheetVersion: Rev. 1; PackageVersion: Rev. L, 07/2008; PackageReference: U10+2; PackageDescription: 10-Pin Micro-MAX, Thin Shrink Small-Outline (U10+2), Body 3 x 3 mm, Pitch 0.5 mm; Supplier 1: Digi-Key; Supplier Part Number 1: MAX6652AUB+-ND; Supplier 2: Farnell; Supplier Part Number 2: 1380012; Supplier 3: Newark; Supplier Part Number 3: 67K6257; Supplier 4: Mouser; Supplier Part Number 4: 700-MAX6652AUB; Mounting Technology: Surface Mount; Code_JEDEC: MO-187; ComponentLink1Description: Manufacturer URL; ComponentLink1URL: http://www.maximintegrated.com/; ComponentLink2Description: Datasheet; ComponentLink2URL: http://datasheets.maximintegrated.com/en/ds/MAX6652.pdf; ComponentLink3Description: Package Specification; ComponentLink3URL: http://pdfserv.maximintegrated.com/package_dwgs/21-0061.PDF
footprint MAXM-U10+2_N (SOP, 10-Leads, Body 3x3mm, Pitch 0.5mm, IPC Medium Density)
footprint MAXM-U10+2_L (SOP, 10-Leads, Body 3x3mm, Pitch 0.5mm, IPC High Density)
footprint MAXM-U10+2_M (SOP, 10-Leads, Body 3x3mm, Pitch 0.5mm, IPC Low Density)
pins: 1 12VIN (in) "Analog Input. Monitors 12V supply.", 2 2.5VIN (in) "Analog Input. Monitors 2.5V supply.", 3 3.3VIN (in) "Analog Input. Monitors 3.3V supply.", 4 NC "No Connection. Can be connected to GND to improve thermal conductivity.", 5 GND (power) "Ground", 6 ~{ALERT} (oc) "SMBus Alert (Interrupt) Output, Open Drain. Alerts the master that a temperature or voltage limit has been violated.", 7 ADD (in) "SMBus Address Select Input. ADD is sampled at the beginning of each I2C-compatible/SMBus transaction, and the 2 LSBs of the slave address register are detemined by ADD's connection to GND, SDA, SCL, or VCC.", 8 SDA (io) "I2C-Compatible/SMBus Serial Data Interface", 9 SCL (in) "I2C-Compatible/SMBus Serial Clock Input", 10 VCC (power) "Supply Voltage Input, +2.7V to +5.5V. Also serves as a voltage monitor input. Bypass VCC to GND with a 0.1µFuF capacitor."

## MAX6652AUB+T
designator U?
Temperature Sensor and System Monitor, 8 Bits Temperature Resolution, -40 to 125 degC, 10-Pin SOP (U10+2), Pb-Free, Tape and Reel; Generic Part Number: MAX6652; PartNumber: MAX6652AUB+T; Alarm Output: Alert; Functions: Multi-Channel Temperature Monitor; Interface: 2-Wire/I2C/SMBus; Multi Droppable: Yes; Parasite Pwr.: No; DatasheetVersion: Rev. 1; PackageVersion: Rev. L, 07/2008; PackageReference: U10+2; PackageDescription: 10-Pin Micro-MAX, Thin Shrink Small-Outline (U10+2), Body 3 x 3 mm, Pitch 0.5 mm; Supplier 1: Digi-Key; Supplier Part Number 1: MAX6652AUB+TTR-ND; Supplier 2: Digi-Key; Supplier Part Number 2: MAX6652AUB+TCT-ND; Supplier 3: Digi-Key; Supplier Part Number 3: MAX6652AUB+TDKR-ND; Supplier 4: Mouser; Supplier Part Number 4: 700-MAX6652AUBT; Packing: Tape and Reel; Mounting Technology: Surface Mount; Code_JEDEC: MO-187; ComponentLink1Description: Manufacturer URL; ComponentLink1URL: http://www.maximintegrated.com/; ComponentLink2Description: Datasheet; ComponentLink2URL: http://datasheets.maximintegrated.com/en/ds/MAX6652.pdf; ComponentLink3Description: Package Specification; ComponentLink3URL: http://pdfserv.maximintegrated.com/package_dwgs/21-0061.PDF
footprint MAXM-U10+2_N (SOP, 10-Leads, Body 3x3mm, Pitch 0.5mm, IPC Medium Density)
footprint MAXM-U10+2_L (SOP, 10-Leads, Body 3x3mm, Pitch 0.5mm, IPC High Density)
footprint MAXM-U10+2_M (SOP, 10-Leads, Body 3x3mm, Pitch 0.5mm, IPC Low Density)
pins: 1 12VIN (in) "Analog Input. Monitors 12V supply.", 2 2.5VIN (in) "Analog Input. Monitors 2.5V supply.", 3 3.3VIN (in) "Analog Input. Monitors 3.3V supply.", 4 NC "No Connection. Can be connected to GND to improve thermal conductivity.", 5 GND (power) "Ground", 6 ~{ALERT} (oc) "SMBus Alert (Interrupt) Output, Open Drain. Alerts the master that a temperature or voltage limit has been violated.", 7 ADD (in) "SMBus Address Select Input. ADD is sampled at the beginning of each I2C-compatible/SMBus transaction, and the 2 LSBs of the slave address register are detemined by ADD's connection to GND, SDA, SCL, or VCC.", 8 SDA (io) "I2C-Compatible/SMBus Serial Data Interface", 9 SCL (in) "I2C-Compatible/SMBus Serial Clock Input", 10 VCC (power) "Supply Voltage Input, +2.7V to +5.5V. Also serves as a voltage monitor input. Bypass VCC to GND with a 0.1µFuF capacitor."

## MAX6652AUB-T
designator U?
Temperature Sensor and System Monitor, 8 Bits Temperature Resolution, -40 to 125 degC, 10-Pin SOP (U10-2), Tape and Reel; Generic Part Number: MAX6652; PartNumber: MAX6652AUB-T; Alarm Output: Alert; Functions: Multi-Channel Temperature Monitor; Interface: 2-Wire/I2C/SMBus; Multi Droppable: Yes; Parasite Pwr.: No; DatasheetVersion: Rev. 1; PackageVersion: Rev. L, 07/2008; PackageReference: U10-2; PackageDescription: 10-Pin Micro-MAX, Thin Shrink Small-Outline (U10-2), Body 3 x 3 mm, Pitch 0.5 mm; Supplier 1: Mouser; Supplier Part Number 1: N/A; Packing: Tape and Reel; Mounting Technology: Surface Mount; Code_JEDEC: MO-187; ComponentLink1Description: Manufacturer URL; ComponentLink1URL: http://www.maximintegrated.com/; ComponentLink2Description: Datasheet; ComponentLink2URL: http://datasheets.maximintegrated.com/en/ds/MAX6652.pdf; ComponentLink3Description: Package Specification; ComponentLink3URL: http://pdfserv.maximintegrated.com/package_dwgs/21-0061.PDF
footprint MAXM-U10-2_N (SOP, 10-Leads, Body 3x3mm, Pitch 0.5mm, IPC Medium Density)
footprint MAXM-U10-2_L (SOP, 10-Leads, Body 3x3mm, Pitch 0.5mm, IPC High Density)
footprint MAXM-U10-2_M (SOP, 10-Leads, Body 3x3mm, Pitch 0.5mm, IPC Low Density)
pins: 1 12VIN (in) "Analog Input. Monitors 12V supply.", 2 2.5VIN (in) "Analog Input. Monitors 2.5V supply.", 3 3.3VIN (in) "Analog Input. Monitors 3.3V supply.", 4 NC "No Connection. Can be connected to GND to improve thermal conductivity.", 5 GND (power) "Ground", 6 ~{ALERT} (oc) "SMBus Alert (Interrupt) Output, Open Drain. Alerts the master that a temperature or voltage limit has been violated.", 7 ADD (in) "SMBus Address Select Input. ADD is sampled at the beginning of each I2C-compatible/SMBus transaction, and the 2 LSBs of the slave address register are detemined by ADD's connection to GND, SDA, SCL, or VCC.", 8 SDA (io) "I2C-Compatible/SMBus Serial Data Interface", 9 SCL (in) "I2C-Compatible/SMBus Serial Clock Input", 10 VCC (power) "Supply Voltage Input, +2.7V to +5.5V. Also serves as a voltage monitor input. Bypass VCC to GND with a 0.1µFuF capacitor."

## MAX6653AEE
designator U?
Temperature Monitor and PWM Fan Controller, -40 to 125 degC, 16-Pin SOP (E16-5); Generic Part Number: MAX6653; PartNumber: MAX6653AEE; Fan Controller Functions: Dual Temperature Alarms, Fan Failure Detector ,Remote & Local Sensor; Interface: 2-Wire/I2C/SMBus; DatasheetVersion: Rev. 1; PackageVersion: Rev. K, 04/2012; PackageReference: E16-5; PackageDescription: 16-Pin Quarter Small-Outline Package, Body 3.9 x 4.89 mm, Pitch 0.635 mm; Supplier 1: Mouser; Supplier Part Number 1: N/A; Fan Cntrl.: PWM; Mounting Technology: Surface Mount; Code_JEDEC: MO-137; ComponentLink1Description: Manufacturer URL; ComponentLink1URL: http://www.maximintegrated.com/; ComponentLink2Description: Datasheet; ComponentLink2URL: http://datasheets.maximintegrated.com/en/ds/MAX6653-MAX6664.pdf; ComponentLink3Description: Package Specification; ComponentLink3URL: http://pdfserv.maximintegrated.com/package_dwgs/21-0055.PDF
footprint MAXM-E16-5_N (SOP, 16-Leads, Body 4.89x3.9mm, Pitch 0.635mm, IPC Medium Density)
footprint MAXM-E16-5_L (SOP, 16-Leads, Body 4.89x3.9mm, Pitch 0.635mm, IPC High Density)
footprint MAXM-E16-5_M (SOP, 16-Leads, Body 4.89x3.9mm, Pitch 0.635mm, IPC Low Density)
pins: 1 PWM_OUT (oc) "Digital Output (Open Drain). Pulse-width modulated output to external power transistor. Requires a pullup resistor (10k ohm typ).", 2 TACH/AIN (in) "Digital/Analog Input. Fan tachometer input. May be reprogrammed as an analog input to measure speed of a 2-wire fan. See Figure 5.", 3 CRIT0 (in) "Input. Used in conjunction with CRIT1 to set T\H\E\R\M\ and S\H\U\T\D\O\W\N\ default set points (see Table 1).", 4 CRIT1 (in) "Input. Used in conjunction with CRIT0 to set T\H\E\R\M\ and S\H\U\T\D\O\W\N\ default set points (see Table 1).", 5 GND (power) "Ground", 6 VCC (power) "Power Supply. Bypass with a 0.01uF capacitor to GND.", 7 ~{THERM} (io) "Digital I/O (Open Drain). An active-low thermal-overload output to indicate that the overtemperature set point has been exceeded. Also acts as an input to provide external fan control. When this pin is pulled low by an (See Datasheet)", 8 ~{FAN_FAULT} (oc) "Digital Output (Active Low, Open Drain). Signals a fan fault. Requires a pullup resistor (10k ohm typ).", 9 DXN "Combined Current Sink and A/D Negative Input. DXN is internally biased to a diode voltage above ground.", 10 DXP "Combined Current Source and A/D Positive Input for the Remote-Diode Channel. Do not leave DXP floating; connect DXP to DXN if no remote diode is used. Place a 2200pF capacitor between DXP and DXN for noise filtering.", 11 ~{SDL} (oc) "An Active-Low Open-Drain Output. It indicates that local temperature is above the shutdown set point. Normally used to directly deactivate the CPU power supply.", 12 ~{SDR} (oc) "An Active-Low Open-Drain Output. It indicates that remote temperature is above the shutdown set point. Normally used to directly deactivate the CPU power supply.", 13 ADD (in) "Three-State Logic Input. Sets the 2 lower bits of the device SMBus address (Table 2). ADD is not an ordinary logic input pin; ADD should be connected to VCC, GND, or float.", 14 ~{INT} (io) "Digital Output (Open Drain). Can be programmed as an interrupt output for temperature/fan speed interrupts. Requires a pullup resistor (10k ohm typ). For the MAX6653/MAX6663, it can be used also as an input. If pulled low, (See Datasheet)", 15 SMBDATA (io) "SMBus Serial-Data Input/Output (Open Drain). Requires a pullup resistor (10k ohm typ).", 16 SMBCLK (in) "SMBus Serial-Clock Input. Requires a pullup resistor (10k ohm typ)."

## MAX6653AEE+
designator U?
Temperature Monitor and PWM Fan Controller, -40 to 125 degC, 16-Pin SOP (E16+5), Pb-Free; Generic Part Number: MAX6653; PartNumber: MAX6653AEE+; Fan Controller Functions: Dual Temperature Alarms, Fan Failure Detector ,Remote & Local Sensor; Interface: 2-Wire/I2C/SMBus; DatasheetVersion: Rev. 1; PackageVersion: Rev. K, 04/2012; PackageReference: E16+5; PackageDescription: 16-Pin Quarter Small-Outline Package, Body 3.9 x 4.89 mm, Pitch 0.635 mm; Supplier 1: Digi-Key; Supplier Part Number 1: MAX6653AEE+-ND; Supplier 2: Mouser; Supplier Part Number 2: 700-MAX6653AEE; Fan Cntrl.: PWM; Mounting Technology: Surface Mount; Code_JEDEC: MO-137; ComponentLink1Description: Manufacturer URL; ComponentLink1URL: http://www.maximintegrated.com/; ComponentLink2Description: Datasheet; ComponentLink2URL: http://datasheets.maximintegrated.com/en/ds/MAX6653-MAX6664.pdf; ComponentLink3Description: Package Specification; ComponentLink3URL: http://pdfserv.maximintegrated.com/package_dwgs/21-0055.PDF
footprint MAXM-E16+5_N (SOP, 16-Leads, Body 4.89x3.9mm, Pitch 0.635mm, IPC Medium Density)
footprint MAXM-E16+5_L (SOP, 16-Leads, Body 4.89x3.9mm, Pitch 0.635mm, IPC High Density)
footprint MAXM-E16+5_M (SOP, 16-Leads, Body 4.89x3.9mm, Pitch 0.635mm, IPC Low Density)
pins: 1 PWM_OUT (oc) "Digital Output (Open Drain). Pulse-width modulated output to external power transistor. Requires a pullup resistor (10k ohm typ).", 2 TACH/AIN (in) "Digital/Analog Input. Fan tachometer input. May be reprogrammed as an analog input to measure speed of a 2-wire fan. See Figure 5.", 3 CRIT0 (in) "Input. Used in conjunction with CRIT1 to set T\H\E\R\M\ and S\H\U\T\D\O\W\N\ default set points (see Table 1).", 4 CRIT1 (in) "Input. Used in conjunction with CRIT0 to set T\H\E\R\M\ and S\H\U\T\D\O\W\N\ default set points (see Table 1).", 5 GND (power) "Ground", 6 VCC (power) "Power Supply. Bypass with a 0.01uF capacitor to GND.", 7 ~{THERM} (io) "Digital I/O (Open Drain). An active-low thermal-overload output to indicate that the overtemperature set point has been exceeded. Also acts as an input to provide external fan control. When this pin is pulled low by an (See Datasheet)", 8 ~{FAN_FAULT} (oc) "Digital Output (Active Low, Open Drain). Signals a fan fault. Requires a pullup resistor (10k ohm typ).", 9 DXN "Combined Current Sink and A/D Negative Input. DXN is internally biased to a diode voltage above ground.", 10 DXP "Combined Current Source and A/D Positive Input for the Remote-Diode Channel. Do not leave DXP floating; connect DXP to DXN if no remote diode is used. Place a 2200pF capacitor between DXP and DXN for noise filtering.", 11 ~{SDL} (oc) "An Active-Low Open-Drain Output. It indicates that local temperature is above the shutdown set point. Normally used to directly deactivate the CPU power supply.", 12 ~{SDR} (oc) "An Active-Low Open-Drain Output. It indicates that remote temperature is above the shutdown set point. Normally used to directly deactivate the CPU power supply.", 13 ADD (in) "Three-State Logic Input. Sets the 2 lower bits of the device SMBus address (Table 2). ADD is not an ordinary logic input pin; ADD should be connected to VCC, GND, or float.", 14 ~{INT} (io) "Digital Output (Open Drain). Can be programmed as an interrupt output for temperature/fan speed interrupts. Requires a pullup resistor (10k ohm typ). For the MAX6653/MAX6663, it can be used also as an input. If pulled low, (See Datasheet)", 15 SMBDATA (io) "SMBus Serial-Data Input/Output (Open Drain). Requires a pullup resistor (10k ohm typ).", 16 SMBCLK (in) "SMBus Serial-Clock Input. Requires a pullup resistor (10k ohm typ)."